# EAGLE library part MAX1112 (library 1_Robo-Lib)
MAX1112/MAX1113 The MAX1112/MAX1113 low-power, 8-bit, 8-channel analog-to-digital converters (ADCs) feature an internal track/hold, voltage reference, clock, and serial interface. They operate from a single 4.5V to 5.5V supply and consume only 135μA while sampling at rates up to 50ksps. The MAX1112's 8 analog inputs and the MAX1113's 4 analog inputs are software-configurable, allowing unipolar/bipolar and single-ended/differential operation. Successive-approximation conversions are performed using either the internal clock or an external serial-interface clock. The full-scale analog input range is determined by the 4.096V internal reference, or by an externally applied reference ranging from 1V to VDD. The 4-wire serial interface is compatible with the SPI™, QSPI™, and MICROWIRE™ serial-interface standards. A serial-strobe output provides the end-of-conversion signal for interrupt-driven processors. The MAX1112/MAX1113 have a software-programmable, 2µA automatic power-down mode to minimize power consumption. Using power-down, the supply current is reduced to 13µA at 1ksps, and only 82µA at 10ksps. Power-down can also be controlled using the active-low SHDN input pin. Accessing the serial interface automatically powers up the device. The MAX1112 is available in a 20-pin SSOP package. The MAX1113 is available in a small 16-pin QSOP package. Datasheet <http://datasheets.maximintegrated.com/en/ds/MAX1112-MAX1113.pdf>
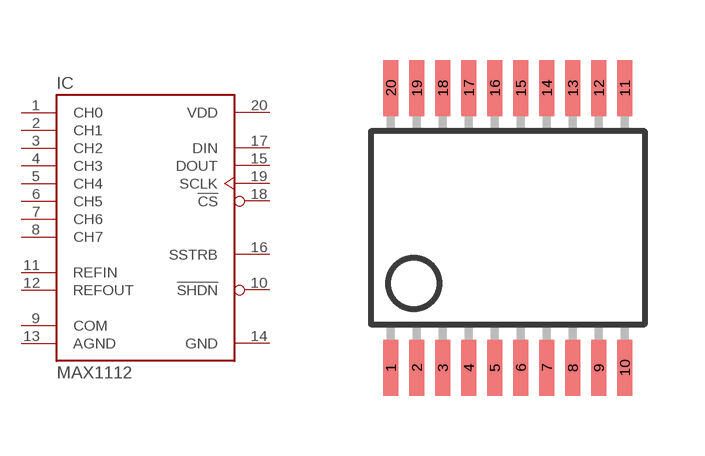
[diagram p15: symbol with the pads of SSOP20; footprint SSOP20]

Designator prefix IC

## MAX1112  [SSOP20]
1  CH0  in
2  CH1  in
3  CH2  in
4  CH3  in
5  CH4  in
6  CH5  in
7  CH6  in
8  CH7  in
9  COM  in
10  !SHDN
11  REFIN
12  REFOUT
13  AGND  pwr
14  GND  pwr
15  DOUT
16  SSTRB
17  DIN
18  !CS
19  SCLK
20  VDD  pwr

## Footprint SSOP20 (pad centres in mm)
Small Shrink Outline Package 20-Pin (210-MIL) SSOP Source: http://www.cypress.com .. 38-12025_0P_V.pdf
smd 0.38 x 1.4: 1 -2.925,-3.5; 2 -2.275,-3.5; 3 -1.625,-3.5; 4 -0.975,-3.5; 5 -0.325,-3.5; 6 0.325,-3.5; 7 0.975,-3.5; 8 1.625,-3.5; 9 2.275,-3.5; 10 2.925,-3.5; 11 2.925,3.5; 12 2.275,3.5; 13 1.625,3.5; 14 0.975,3.5; 15 0.325,3.5; 16 -0.325,3.5; 17 -0.975,3.5; 18 -1.625,3.5; 19 -2.275,3.5; 20 -2.925,3.5